# Altium schematic symbol library 100nH_inductor_0805_Components - 15.03.22 - 13.17.SchLib: 1 symbol
Pins are listed as number, name and electrical type; pins without a type are passive.

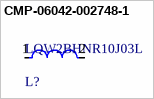
[diagram p0: symbol CMP-06042-002748-1]

## CMP-06042-002748-1
designator L?, comment LQW2BHNR10J03L
Wire Wound RF Inductor 100nH ±5% 350mA 0.38Ω 0805 (2015); Shielding: Unshielded; Q Factor: 40; Series Resistance: 380mR; Test Frequency: 100MHz; Self Resonant Frequency: 900MHz; Core Material: Non-Magnetic; Case/Package: 0805; Case Code (Metric): 2012; Resistor Type: Wirewound; Radiation Hardening: No; Tolerance: 5%; Height - Seated (Max): 0.07inch; Length: 2mm; Termination: SMD/SMT; DC Current: 350mA; Weight: 0.000317oz; Mount: Surface Mount; Current Rating: 350mA; Width: 0.059inch; Military Standard: Not; Max DC Current: 350mA; Inductance: 100nH; Max Operating Temperature: 85°C; Package Quantity: 2000; Packaging: Tape and Reel; Min Operating Temperature: -40°C; Case Code (Imperial): 0805; Height: 1.7mm; DC Resistance (DCR): 380mR; Depth: 1.7mm; Lead Free: Lead Free
footprint FP-LQW2BHN_03-MFG
pins: 1, 2